# EAGLE library part HCTL-2016 (library ic)
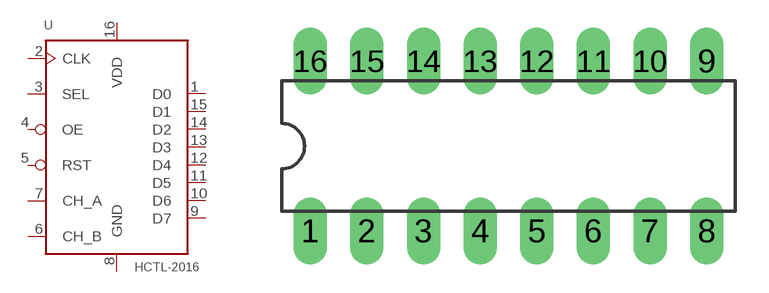
[diagram p5: symbol with the pads of 16PIN; footprint 16PIN]

Designator prefix -

## HCTL-2016  [16PIN]
1  D0  out
2  CLK  in
3  SEL  in
4  OE  in
5  RST  in
6  CH_B  in
7  CH_A  in
8  GND  in
9  D7  out
10  D6  out
11  D5  out
12  D4  out
13  D3  out
14  D2  out
15  D1  out
16  VDD  in

## Footprint 16PIN (pad centres in mm)
drill 0.8 pad 1.499 long: 1 -8.89,-3.81; 2 -6.35,-3.81; 3 -3.81,-3.81; 4 -1.27,-3.81; 5 1.27,-3.81; 6 3.81,-3.81; 7 6.35,-3.81; 8 8.89,-3.81; 9 8.89,3.81; 10 6.35,3.81; 11 3.81,3.81; 12 1.27,3.81; 13 -1.27,3.81; 14 -3.81,3.81; 15 -6.35,3.81; 16 -8.89,3.81